# Altium integrated library FSC Logic Gate.IntLib: 323 symbols (part 6 of 8)
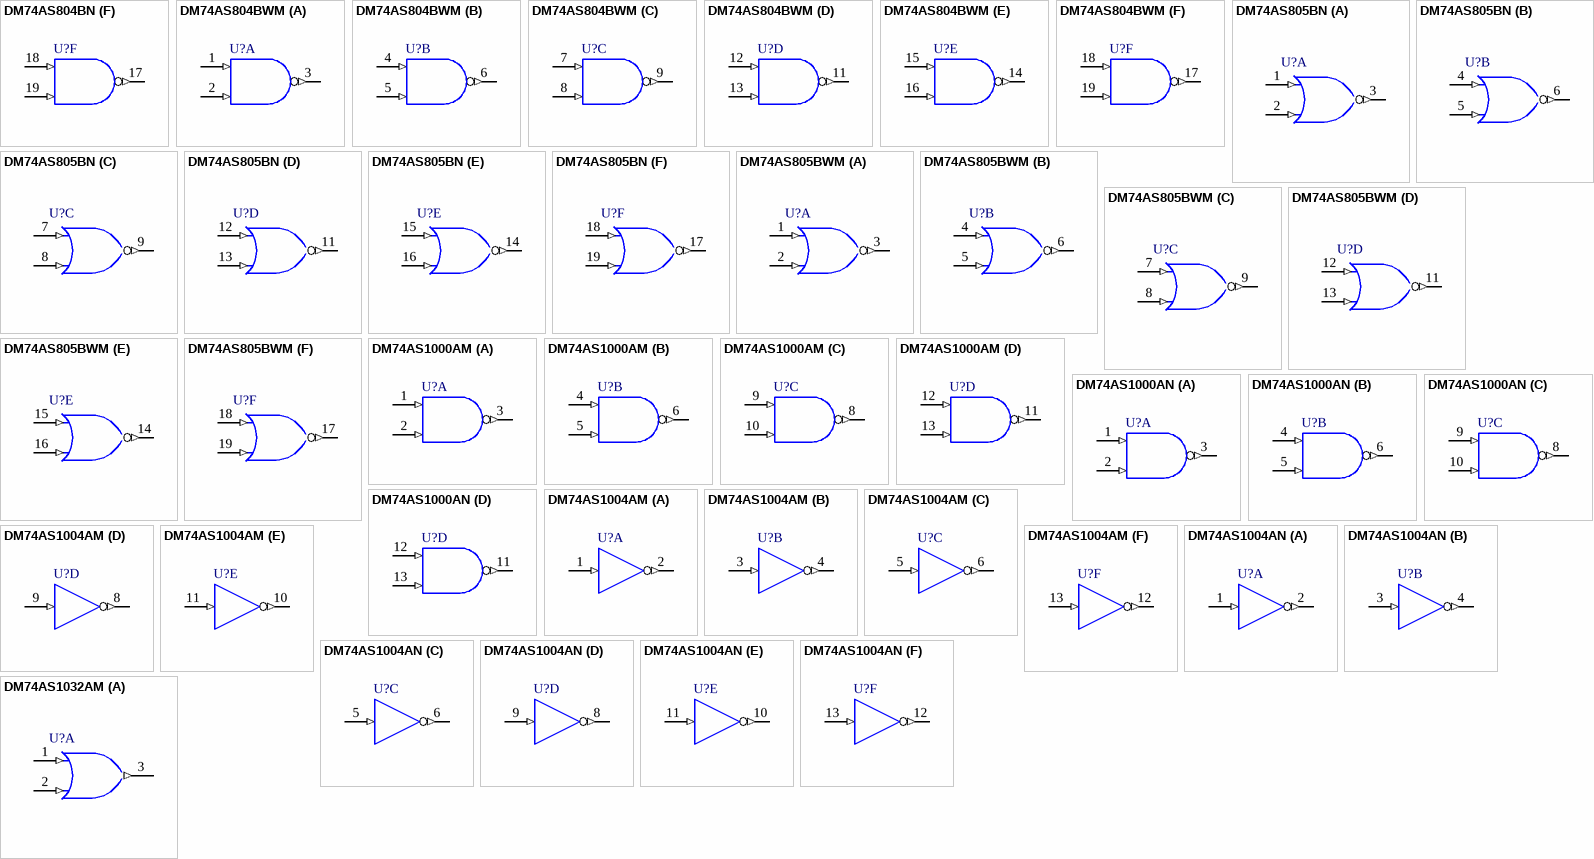
[diagram p36: symbols DM74AS804BN to DM74AS1032AM]

## DM74AS805BWM
designator U?
Hex 2-Input NOR Driver, 20-Pin SOIC; IC_Technology: AS; Published: 17-Jul-2002; LatestRevisionDate: 13-Apr-2006; LatestRevisionNote: IPC-7351 Footprint Added.; DatasheetVersion: Feb-1998; PackageVersion: 2000; PackageReference: M20B; Publisher: Altium Limited; PackageDescription: 20-Pin Small Outline Integrated Circuit 1.27 mm Pitch; Code_JEDEC: MS-013-AC; Code_IPC: SOIC127P1030-20; ComponentLink1Description: Manufacturer Link; ComponentLink1URL: http://www.fairchildsemi.com/; ComponentLink2Description: Datasheet; ComponentLink2URL: http://www.fairchildsemi.com/ds/DM%2FDM74AS805B.pdf
footprint M20B_N (SOIC, 20-Leads, Body 12.8x7.5mm, Pitch 1.27mm, IPC Medium Density)
footprint M20B_L (SOIC, 20-Leads, Body 12.8x7.5mm, Pitch 1.27mm, IPC High Density)
footprint M20B_M (SOIC, 20-Leads, Body 12.8x7.5mm, Pitch 1.27mm, IPC Low Density)
3D model M20B (20-Pin Small Outline Integrated Circuit 1.27 mm Pitch)
signal-integrity model DM74AS805BWM
pins on every part: 10 GND (power) hidden to GND, 20 VCC (power) hidden to VCC
part A pins: 1 A (in), 2 B (in), 3 Y (out)
part B pins: 4 A (in), 5 B (in), 6 Y (out)
part C pins: 7 A (in), 8 B (in), 9 Y (out)
part D pins: 11 Y (out), 12 A (in), 13 B (in)
part E pins: 14 Y (out), 15 A (in), 16 B (in)
part F pins: 17 Y (out), 18 A (in), 19 B (in)

## DM74AS1000AM
designator U?
Quad 2-Input NAND Driver, 14-Pin SOIC; IC_Technology: AS; Published: 17-Jul-2002; LatestRevisionDate: 13-Apr-2006; LatestRevisionNote: IPC-7351 Footprint Added.; DatasheetVersion: Feb-1998; PackageVersion: 2000; PackageReference: M14A; Publisher: Altium Limited; PackageDescription: 14-Pin Small Outline Integrated Circuit 1.27 mm Pitch; Code_IPC: SOIC127P600-14; ComponentLink1Description: Manufacturer Link; ComponentLink1URL: http://www.fairchildsemi.com/; ComponentLink2Description: Datasheet; ComponentLink2URL: http://www.fairchildsemi.com/ds/DM%2FDM74AS1000A.pdf
footprint M14A_N (SOIC, 14-Leads, Body 8.6x3.9mm, Pitch 1.27mm, IPC Medium Density)
footprint M14A_L (SOIC, 14-Leads, Body 8.6x3.9mm, Pitch 1.27mm, IPC High Density)
footprint M14A_M (SOIC, 14-Leads, Body 8.6x3.9mm, Pitch 1.27mm, IPC Low Density)
3D model M14A (14-Pin Small Outline Integrated Circuit 1.27 mm Pitch)
simulation model FSC_74LS00 (SIMCODE)
signal-integrity model DM74AS1000AM
pins on every part: 7 GND (power) hidden to GND, 14 VCC (power) hidden to VCC
part A pins: 1 A (in), 2 B (in), 3 Y (out)
part B pins: 4 A (in), 5 B (in), 6 Y (out)
part C pins: 8 Y (out), 9 A (in), 10 B (in)
part D pins: 11 Y (out), 12 A (in), 13 B (in)

## DM74AS1000AN
designator U?
Quad 2-Input NAND Driver, 14-Pin PDIP; IC_Technology: AS; Published: 17-Jul-2002; LatestRevisionDate: 29-May-2009; LatestRevisionNote: Component Body Added.; DatasheetVersion: Feb-1998; PackageVersion: 2000; PackageReference: N14A; Publisher: Altium Limited; PackageDescription: DIP, 14-Pin, Row Spacing 7.62 mm, Pitch 2.54 mm; ComponentLink1Description: Manufacturer Link; ComponentLink1URL: http://www.fairchildsemi.com/; ComponentLink2Description: Datasheet; ComponentLink2URL: http://www.fairchildsemi.com/ds/DM%2FDM74AS1000A.pdf
footprint N14A (DIP, 14-Leads, Row Spacing 7.62mm, Pitch 2.54mm, Body 19.18x6.35mm)
3D model N14A (DIP, 14-Pin, Row Spacing 7.62 mm, Pitch 2.54 mm)
simulation model FSC_74LS00 (SIMCODE)
signal-integrity model DM74AS1000AN
pins on every part: 7 GND (power) hidden to GND, 14 VCC (power) hidden to VCC
part A pins: 1 A (in), 2 B (in), 3 Y (out)
part B pins: 4 A (in), 5 B (in), 6 Y (out)
part C pins: 8 Y (out), 9 A (in), 10 B (in)
part D pins: 11 Y (out), 12 A (in), 13 B (in)

## DM74AS1004AM
designator U?
Hex Inverter, 14-Pin SOIC; IC_Technology: AS; Published: 17-Jul-2002; LatestRevisionDate: 13-Apr-2006; LatestRevisionNote: IPC-7351 Footprint Added.; DatasheetVersion: Feb-1998; PackageVersion: 2000; PackageReference: M14A; Publisher: Altium Limited; PackageDescription: 14-Pin Small Outline Integrated Circuit 1.27 mm Pitch; Code_IPC: SOIC127P600-14; ComponentLink1Description: Manufacturer Link; ComponentLink1URL: http://www.fairchildsemi.com/; ComponentLink2Description: Datasheet; ComponentLink2URL: http://www.fairchildsemi.com/ds/DM%2FDM74AS1004A.pdf
footprint M14A_N (SOIC, 14-Leads, Body 8.6x3.9mm, Pitch 1.27mm, IPC Medium Density)
footprint M14A_L (SOIC, 14-Leads, Body 8.6x3.9mm, Pitch 1.27mm, IPC High Density)
footprint M14A_M (SOIC, 14-Leads, Body 8.6x3.9mm, Pitch 1.27mm, IPC Low Density)
3D model M14A (14-Pin Small Outline Integrated Circuit 1.27 mm Pitch)
signal-integrity model DM74AS1004AM
pins on every part: 7 GND (power) hidden to GND, 14 VCC (power) hidden to VCC
part A pins: 1 A (in), 2 Y (out)
part B pins: 3 A (in), 4 Y (out)
part C pins: 5 A (in), 6 Y (out)
part D pins: 8 Y (out), 9 A (in)
part E pins: 10 Y (out), 11 A (in)
part F pins: 12 Y (out), 13 A (in)

## DM74AS1004AN
designator U?
Hex Inverter, 14-Pin PDIP; IC_Technology: AS; Published: 17-Jul-2002; LatestRevisionDate: 29-May-2009; LatestRevisionNote: Component Body Added.; DatasheetVersion: Feb-1998; PackageVersion: 2000; PackageReference: N14A; Publisher: Altium Limited; PackageDescription: DIP, 14-Pin, Row Spacing 7.62 mm, Pitch 2.54 mm; ComponentLink1Description: Manufacturer Link; ComponentLink1URL: http://www.fairchildsemi.com/; ComponentLink2Description: Datasheet; ComponentLink2URL: http://www.fairchildsemi.com/ds/DM%2FDM74AS1004A.pdf
footprint N14A (DIP, 14-Leads, Row Spacing 7.62mm, Pitch 2.54mm, Body 19.18x6.35mm)
3D model N14A (DIP, 14-Pin, Row Spacing 7.62 mm, Pitch 2.54 mm)
signal-integrity model DM74AS1004AN
pins on every part: 7 GND (power) hidden to GND, 14 VCC (power) hidden to VCC
part A pins: 1 A (in), 2 Y (out)
part B pins: 3 A (in), 4 Y (out)
part C pins: 5 A (in), 6 Y (out)
part D pins: 8 Y (out), 9 A (in)
part E pins: 10 Y (out), 11 A (in)
part F pins: 12 Y (out), 13 A (in)

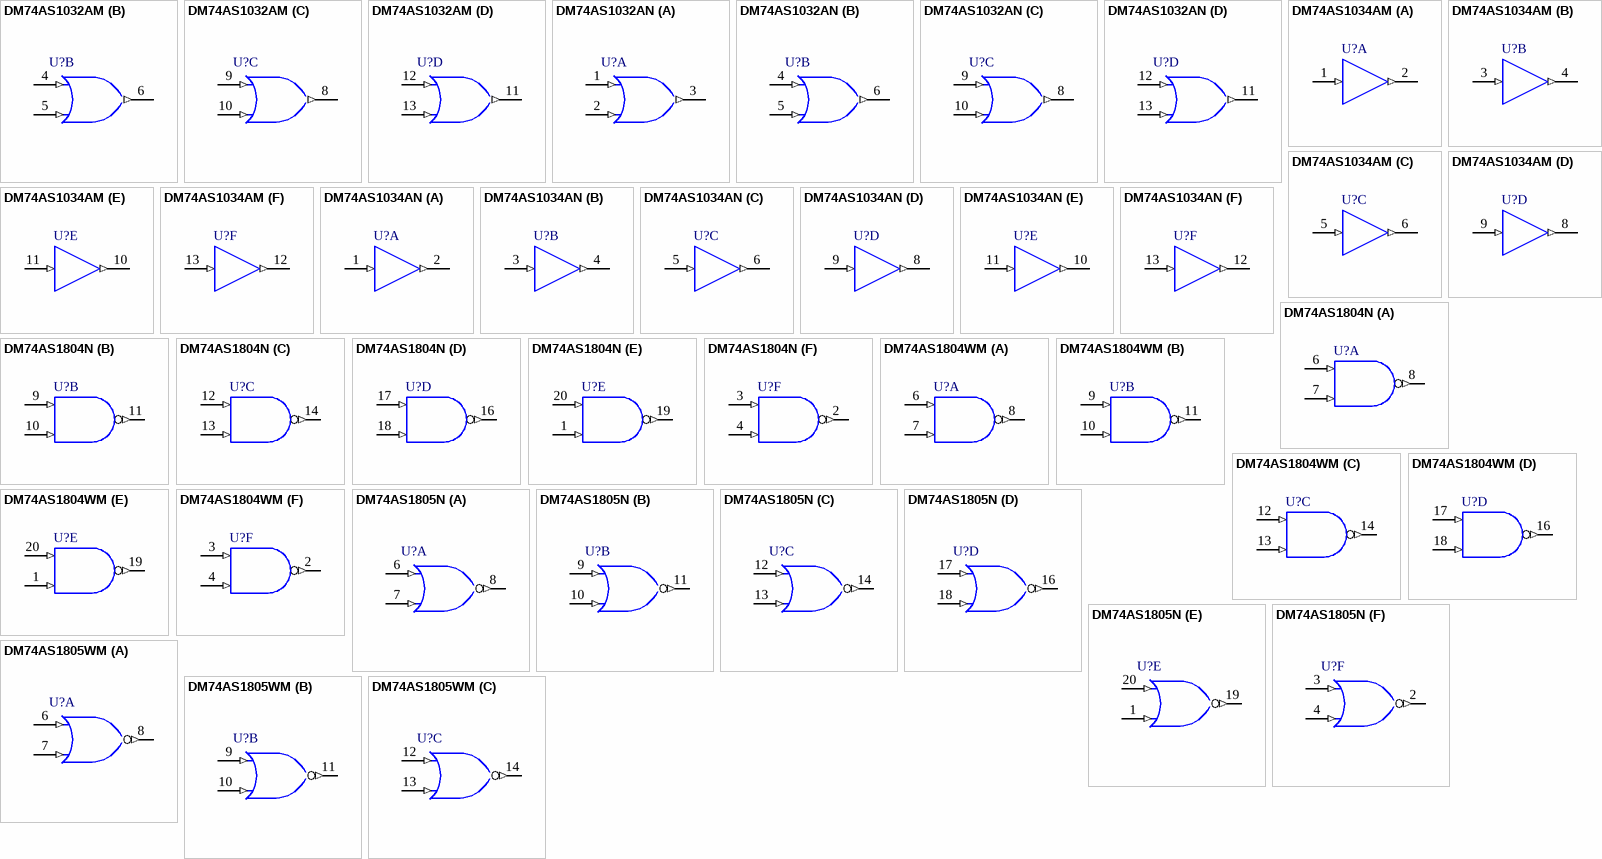
[diagram p23: symbols DM74AS1032AM to DM74AS1805WM]

## DM74AS1032AM
designator U?
Quad 2-Input OR Driver, 14-Pin SOIC; IC_Technology: AS; Published: 17-Jul-2002; LatestRevisionDate: 13-Apr-2006; LatestRevisionNote: IPC-7351 Footprint Added.; DatasheetVersion: Mar-1998; PackageVersion: 2000; PackageReference: M14A; Publisher: Altium Limited; PackageDescription: 14-Pin Small Outline Integrated Circuit 1.27 mm Pitch; Code_IPC: SOIC127P600-14; ComponentLink1Description: Manufacturer Link; ComponentLink1URL: http://www.fairchildsemi.com/; ComponentLink2Description: Datasheet; ComponentLink2URL: http://www.fairchildsemi.com/ds/DM%2FDM74AS1032A.pdf
footprint M14A_N (SOIC, 14-Leads, Body 8.6x3.9mm, Pitch 1.27mm, IPC Medium Density)
footprint M14A_L (SOIC, 14-Leads, Body 8.6x3.9mm, Pitch 1.27mm, IPC High Density)
footprint M14A_M (SOIC, 14-Leads, Body 8.6x3.9mm, Pitch 1.27mm, IPC Low Density)
3D model M14A (14-Pin Small Outline Integrated Circuit 1.27 mm Pitch)
signal-integrity model DM74AS1032AM
pins on every part: 7 GND (power) hidden to GND, 14 VCC (power) hidden to VCC
part A pins: 1 A (in), 2 B (in), 3 Y (out)
part B pins: 4 A (in), 5 B (in), 6 Y (out)
part C pins: 8 Y (out), 9 A (in), 10 B (in)
part D pins: 11 Y (out), 12 A (in), 13 B (in)

## DM74AS1032AN
designator U?
Quad 2-Input OR Driver, 14-Pin PDIP; IC_Technology: AS; Published: 17-Jul-2002; LatestRevisionDate: 29-May-2009; LatestRevisionNote: Component Body Added.; DatasheetVersion: Mar-1998; PackageVersion: 2000; PackageReference: N14A; Publisher: Altium Limited; PackageDescription: DIP, 14-Pin, Row Spacing 7.62 mm, Pitch 2.54 mm; ComponentLink1Description: Manufacturer Link; ComponentLink1URL: http://www.fairchildsemi.com/; ComponentLink2Description: Datasheet; ComponentLink2URL: http://www.fairchildsemi.com/ds/DM%2FDM74AS1032A.pdf
footprint N14A (DIP, 14-Leads, Row Spacing 7.62mm, Pitch 2.54mm, Body 19.18x6.35mm)
3D model N14A (DIP, 14-Pin, Row Spacing 7.62 mm, Pitch 2.54 mm)
signal-integrity model DM74AS1032AN
pins on every part: 7 GND (power) hidden to GND, 14 VCC (power) hidden to VCC
part A pins: 1 A (in), 2 B (in), 3 Y (out)
part B pins: 4 A (in), 5 B (in), 6 Y (out)
part C pins: 8 Y (out), 9 A (in), 10 B (in)
part D pins: 11 Y (out), 12 A (in), 13 B (in)

## DM74AS1034AM
designator U?
Hex Non-Inverting Driver, 14-Pin SOIC; IC_Technology: AS; Published: 17-Jul-2002; LatestRevisionDate: 13-Apr-2006; LatestRevisionNote: IPC-7351 Footprint Added.; DatasheetVersion: Feb-1998; PackageVersion: 2000; PackageReference: M14A; Publisher: Altium Limited; PackageDescription: 14-Pin Small Outline Integrated Circuit 1.27 mm Pitch; Code_IPC: SOIC127P600-14; ComponentLink1Description: Manufacturer Link; ComponentLink1URL: http://www.fairchildsemi.com/; ComponentLink2Description: Datasheet; ComponentLink2URL: http://www.fairchildsemi.com/ds/DM%2FDM74AS1034A.pdf
footprint M14A_N (SOIC, 14-Leads, Body 8.6x3.9mm, Pitch 1.27mm, IPC Medium Density)
footprint M14A_L (SOIC, 14-Leads, Body 8.6x3.9mm, Pitch 1.27mm, IPC High Density)
footprint M14A_M (SOIC, 14-Leads, Body 8.6x3.9mm, Pitch 1.27mm, IPC Low Density)
3D model M14A (14-Pin Small Outline Integrated Circuit 1.27 mm Pitch)
signal-integrity model DM74AS1034AM
pins on every part: 7 GND (power) hidden to GND, 14 VCC (power) hidden to VCC
part A pins: 1 A (in), 2 Y (out)
part B pins: 3 A (in), 4 Y (out)
part C pins: 5 A (in), 6 Y (out)
part D pins: 8 Y (out), 9 A (in)
part E pins: 10 Y (out), 11 A (in)
part F pins: 12 Y (out), 13 A (in)

## DM74AS1034AN
designator U?
Hex Non-Inverting Driver, 14-Pin PDIP; IC_Technology: AS; Published: 17-Jul-2002; LatestRevisionDate: 29-May-2009; LatestRevisionNote: Component Body Added.; DatasheetVersion: Feb-1998; PackageVersion: 2000; PackageReference: N14A; Publisher: Altium Limited; PackageDescription: DIP, 14-Pin, Row Spacing 7.62 mm, Pitch 2.54 mm; ComponentLink1Description: Manufacturer Link; ComponentLink1URL: http://www.fairchildsemi.com/; ComponentLink2Description: Datasheet; ComponentLink2URL: http://www.fairchildsemi.com/ds/DM%2FDM74AS1034A.pdf
footprint N14A (DIP, 14-Leads, Row Spacing 7.62mm, Pitch 2.54mm, Body 19.18x6.35mm)
3D model N14A (DIP, 14-Pin, Row Spacing 7.62 mm, Pitch 2.54 mm)
signal-integrity model DM74AS1034AN
pins on every part: 7 GND (power) hidden to GND, 14 VCC (power) hidden to VCC
part A pins: 1 A (in), 2 Y (out)
part B pins: 3 A (in), 4 Y (out)
part C pins: 5 A (in), 6 Y (out)
part D pins: 8 Y (out), 9 A (in)
part E pins: 10 Y (out), 11 A (in)
part F pins: 12 Y (out), 13 A (in)

## DM74AS1804N
designator U?
Hex 2-Input NAND Driver, 20-Pin PDIP; IC_Technology: AS; Published: 17-Jul-2002; LatestRevisionDate: 29-May-2009; LatestRevisionNote: Component Body Added.; DatasheetVersion: Feb-1998; PackageVersion: 2000; PackageReference: N20A; Publisher: Altium Limited; PackageDescription: DIP, 20-Pin, Row Spacing 7.62 mm, Pitch 2.54 mm; Code_JEDEC: MS-001-AD; ComponentLink1Description: Manufacturer Link; ComponentLink1URL: http://www.fairchildsemi.com/; ComponentLink2Description: Datasheet; ComponentLink2URL: http://www.fairchildsemi.com/ds/DM%2FDM74AS1804.pdf
footprint N20A (DIP, 20-Leads, Row Spacing 7.62mm, Pitch 2.54mm, Body 26.07x6.6mm)
3D model N20A (DIP, 20-Pin, Row Spacing 7.62 mm, Pitch 2.54 mm)
signal-integrity model DM74AS1804N
pins on every part: 5 VCC (power) hidden to VCC, 15 GND (power) hidden to GND
part A pins: 6 A (in), 7 B (in), 8 Y (out)
part B pins: 9 A (in), 10 B (in), 11 Y (out)
part C pins: 12 A (in), 13 B (in), 14 Y (out)
part D pins: 16 Y (out), 17 A (in), 18 B (in)
part E pins: 1 B (in), 19 Y (out), 20 A (in)
part F pins: 2 Y (out), 3 A (in), 4 B (in)

## DM74AS1804WM
designator U?
Hex 2-Input NAND Driver, 20-Pin SOIC; IC_Technology: AS; Published: 17-Jul-2002; LatestRevisionDate: 13-Apr-2006; LatestRevisionNote: IPC-7351 Footprint Added.; DatasheetVersion: Feb-1998; PackageVersion: 2000; PackageReference: M20B; Publisher: Altium Limited; PackageDescription: 20-Pin Small Outline Integrated Circuit 1.27 mm Pitch; Code_JEDEC: MS-013-AC; Code_IPC: SOIC127P1030-20; ComponentLink1Description: Manufacturer Link; ComponentLink1URL: http://www.fairchildsemi.com/; ComponentLink2Description: Datasheet; ComponentLink2URL: http://www.fairchildsemi.com/ds/DM%2FDM74AS1804.pdf
footprint M20B_N (SOIC, 20-Leads, Body 12.8x7.5mm, Pitch 1.27mm, IPC Medium Density)
footprint M20B_L (SOIC, 20-Leads, Body 12.8x7.5mm, Pitch 1.27mm, IPC High Density)
footprint M20B_M (SOIC, 20-Leads, Body 12.8x7.5mm, Pitch 1.27mm, IPC Low Density)
3D model M20B (20-Pin Small Outline Integrated Circuit 1.27 mm Pitch)
signal-integrity model DM74AS1804WM
pins on every part: 5 VCC (power) hidden to VCC, 15 GND (power) hidden to GND
part A pins: 6 A (in), 7 B (in), 8 Y (out)
part B pins: 9 A (in), 10 B (in), 11 Y (out)
part C pins: 12 A (in), 13 B (in), 14 Y (out)
part D pins: 16 Y (out), 17 A (in), 18 B (in)
part E pins: 1 B (in), 19 Y (out), 20 A (in)
part F pins: 2 Y (out), 3 A (in), 4 B (in)

## DM74AS1805N
designator U?
Hex 2-Input NOR Driver, 20-Pin PDIP; IC_Technology: AS; Published: 17-Jul-2002; LatestRevisionDate: 29-May-2009; LatestRevisionNote: Component Body Added.; DatasheetVersion: Feb-1998; PackageVersion: 2000; PackageReference: N20A; Publisher: Altium Limited; PackageDescription: DIP, 20-Pin, Row Spacing 7.62 mm, Pitch 2.54 mm; Code_JEDEC: MS-001-AD; ComponentLink1Description: Manufacturer Link; ComponentLink1URL: http://www.fairchildsemi.com/; ComponentLink2Description: Datasheet; ComponentLink2URL: http://www.fairchildsemi.com/ds/DM%2FDM74AS1805.pdf
footprint N20A (DIP, 20-Leads, Row Spacing 7.62mm, Pitch 2.54mm, Body 26.07x6.6mm)
3D model N20A (DIP, 20-Pin, Row Spacing 7.62 mm, Pitch 2.54 mm)
signal-integrity model DM74AS1805N
pins on every part: 5 VCC (power) hidden to VCC, 15 GND (power) hidden to GND
part A pins: 6 A (in), 7 B (in), 8 Y (out)
part B pins: 9 A (in), 10 B (in), 11 Y (out)
part C pins: 12 A (in), 13 B (in), 14 Y (out)
part D pins: 16 Y (out), 17 A (in), 18 B (in)
part E pins: 1 B (in), 19 Y (out), 20 A (in)
part F pins: 2 Y (out), 3 A (in), 4 B (in)

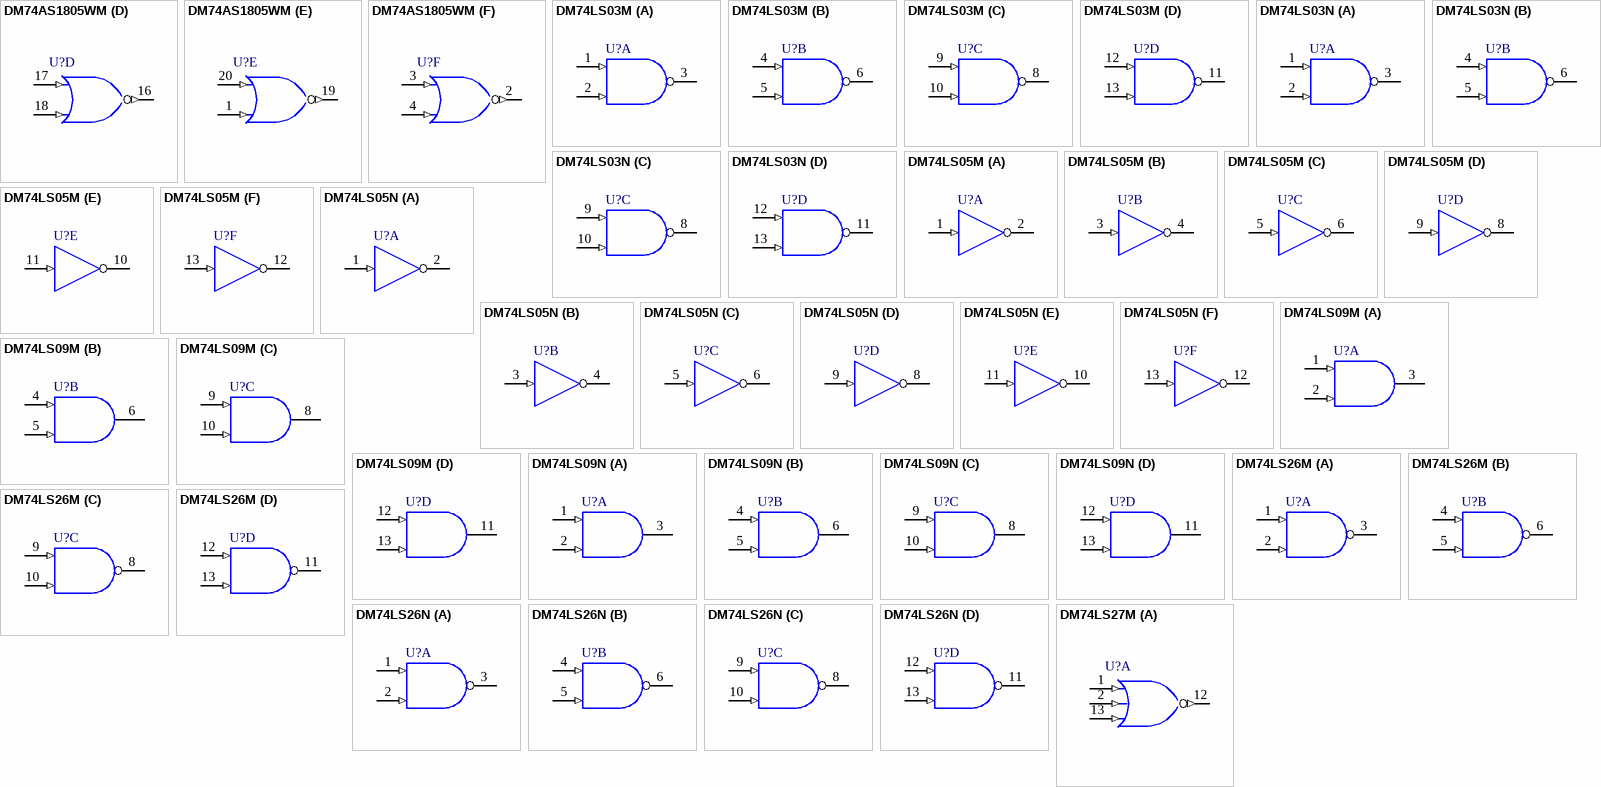
[diagram p24: symbols DM74AS1805WM to DM74LS27M]

## DM74AS1805WM
designator U?
Hex 2-Input NOR Driver, 20-Pin SOIC; IC_Technology: AS; Published: 17-Jul-2002; LatestRevisionDate: 13-Apr-2006; LatestRevisionNote: IPC-7351 Footprint Added.; DatasheetVersion: Feb-1998; PackageVersion: 2000; PackageReference: M20B; Publisher: Altium Limited; PackageDescription: 20-Pin Small Outline Integrated Circuit 1.27 mm Pitch; Code_JEDEC: MS-013-AC; Code_IPC: SOIC127P1030-20; ComponentLink1Description: Manufacturer Link; ComponentLink1URL: http://www.fairchildsemi.com/; ComponentLink2Description: Datasheet; ComponentLink2URL: http://www.fairchildsemi.com/ds/DM%2FDM74AS1805.pdf
footprint M20B_N (SOIC, 20-Leads, Body 12.8x7.5mm, Pitch 1.27mm, IPC Medium Density)
footprint M20B_L (SOIC, 20-Leads, Body 12.8x7.5mm, Pitch 1.27mm, IPC High Density)
footprint M20B_M (SOIC, 20-Leads, Body 12.8x7.5mm, Pitch 1.27mm, IPC Low Density)
3D model M20B (20-Pin Small Outline Integrated Circuit 1.27 mm Pitch)
signal-integrity model DM74AS1805WM
pins on every part: 5 VCC (power) hidden to VCC, 15 GND (power) hidden to GND
part A pins: 6 A (in), 7 B (in), 8 Y (out)
part B pins: 9 A (in), 10 B (in), 11 Y (out)
part C pins: 12 A (in), 13 B (in), 14 Y (out)
part D pins: 16 Y (out), 17 A (in), 18 B (in)
part E pins: 1 B (in), 19 Y (out), 20 A (in)
part F pins: 2 Y (out), 3 A (in), 4 B (in)

## DM74LS03M
designator U?
Quad 2-Input NAND Gate with Open-Collector Output, 14-Pin SOIC; IC_Technology: LS; Published: 17-Jul-2002; LatestRevisionDate: 13-Apr-2006; LatestRevisionNote: IPC-7351 Footprint Added.; DatasheetVersion: Mar-1998; PackageVersion: 2000; PackageReference: M14A; Publisher: Altium Limited; PackageDescription: 14-Pin Small Outline Integrated Circuit 1.27 mm Pitch; Code_IPC: SOIC127P600-14; ComponentLink1Description: Manufacturer Link; ComponentLink1URL: http://www.fairchildsemi.com/
footprint M14A_N (SOIC, 14-Leads, Body 8.6x3.9mm, Pitch 1.27mm, IPC Medium Density)
footprint M14A_L (SOIC, 14-Leads, Body 8.6x3.9mm, Pitch 1.27mm, IPC High Density)
footprint M14A_M (SOIC, 14-Leads, Body 8.6x3.9mm, Pitch 1.27mm, IPC Low Density)
3D model M14A (14-Pin Small Outline Integrated Circuit 1.27 mm Pitch)
simulation model FSC_74LS03 (SIMCODE)
signal-integrity model DM74LS03M
pins on every part: 7 GND (power) hidden to GND, 14 VCC (power) hidden to VCC
part A pins: 1 A (in), 2 B (in), 3 Y (oc)
part B pins: 4 A (in), 5 B (in), 6 Y (oc)
part C pins: 8 Y (oc), 9 A (in), 10 B (in)
part D pins: 11 Y (oc), 12 A (in), 13 B (in)

## DM74LS03N
designator U?
Quad 2-Input NAND Gate with Open-Collector Output, 14-Pin PDIP; IC_Technology: LS; Published: 17-Jul-2002; LatestRevisionDate: 29-May-2009; LatestRevisionNote: Component Body Added.; DatasheetVersion: Mar-1998; PackageVersion: 2000; PackageReference: N14A; Publisher: Altium Limited; PackageDescription: DIP, 14-Pin, Row Spacing 7.62 mm, Pitch 2.54 mm; ComponentLink1Description: Manufacturer Link; ComponentLink1URL: http://www.fairchildsemi.com/
footprint N14A (DIP, 14-Leads, Row Spacing 7.62mm, Pitch 2.54mm, Body 19.18x6.35mm)
3D model N14A (DIP, 14-Pin, Row Spacing 7.62 mm, Pitch 2.54 mm)
simulation model FSC_74LS03 (SIMCODE)
signal-integrity model DM74LS03N
pins on every part: 7 GND (power) hidden to GND, 14 VCC (power) hidden to VCC
part A pins: 1 A (in), 2 B (in), 3 Y (oc)
part B pins: 4 A (in), 5 B (in), 6 Y (oc)
part C pins: 8 Y (oc), 9 A (in), 10 B (in)
part D pins: 11 Y (oc), 12 A (in), 13 B (in)

## DM74LS05M
designator U?
Hex Inverter with Open-Collector Output, 14-Pin SOIC; IC_Technology: LS; Published: 17-Jul-2002; LatestRevisionDate: 13-Apr-2006; LatestRevisionNote: IPC-7351 Footprint Added.; DatasheetVersion: Mar-1998; PackageVersion: 2000; PackageReference: M14A; Publisher: Altium Limited; PackageDescription: 14-Pin Small Outline Integrated Circuit 1.27 mm Pitch; Code_IPC: SOIC127P600-14; ComponentLink1Description: Manufacturer Link; ComponentLink1URL: http://www.fairchildsemi.com/
footprint M14A_N (SOIC, 14-Leads, Body 8.6x3.9mm, Pitch 1.27mm, IPC Medium Density)
footprint M14A_L (SOIC, 14-Leads, Body 8.6x3.9mm, Pitch 1.27mm, IPC High Density)
footprint M14A_M (SOIC, 14-Leads, Body 8.6x3.9mm, Pitch 1.27mm, IPC Low Density)
3D model M14A (14-Pin Small Outline Integrated Circuit 1.27 mm Pitch)
simulation model FSC_74LS05 (SIMCODE)
signal-integrity model DM74LS05M
pins on every part: 7 GND (power) hidden to GND, 14 VCC (power) hidden to VCC
part A pins: 1 A (in), 2 Y (oc)
part B pins: 3 A (in), 4 Y (oc)
part C pins: 5 A (in), 6 Y (oc)
part D pins: 8 Y (oc), 9 A (in)
part E pins: 10 Y (oc), 11 A (in)
part F pins: 12 Y (oc), 13 A (in)

## DM74LS05N
designator U?
Hex Inverter with Open-Collector Output, 14-Pin PDIP; IC_Technology: LS; Published: 17-Jul-2002; LatestRevisionDate: 29-May-2009; LatestRevisionNote: Component Body Added.; DatasheetVersion: Mar-1998; PackageVersion: 2000; PackageReference: N14A; Publisher: Altium Limited; PackageDescription: DIP, 14-Pin, Row Spacing 7.62 mm, Pitch 2.54 mm; ComponentLink1Description: Manufacturer Link; ComponentLink1URL: http://www.fairchildsemi.com/
footprint N14A (DIP, 14-Leads, Row Spacing 7.62mm, Pitch 2.54mm, Body 19.18x6.35mm)
3D model N14A (DIP, 14-Pin, Row Spacing 7.62 mm, Pitch 2.54 mm)
simulation model FSC_74LS05 (SIMCODE)
signal-integrity model DM74LS05N
pins on every part: 7 GND (power) hidden to GND, 14 VCC (power) hidden to VCC
part A pins: 1 A (in), 2 Y (oc)
part B pins: 3 A (in), 4 Y (oc)
part C pins: 5 A (in), 6 Y (oc)
part D pins: 8 Y (oc), 9 A (in)
part E pins: 10 Y (oc), 11 A (in)
part F pins: 12 Y (oc), 13 A (in)

## DM74LS09M
designator U?
Quad 2-Input AND Gate with Open-Collector Output, 14-Pin SOIC; IC_Technology: LS; Published: 17-Jul-2002; LatestRevisionDate: 13-Apr-2006; LatestRevisionNote: IPC-7351 Footprint Added.; DatasheetVersion: Mar-1998; PackageVersion: 2000; PackageReference: M14A; Publisher: Altium Limited; PackageDescription: 14-Pin Small Outline Integrated Circuit 1.27 mm Pitch; Code_IPC: SOIC127P600-14; ComponentLink1Description: Manufacturer Link; ComponentLink1URL: http://www.fairchildsemi.com/
footprint M14A_N (SOIC, 14-Leads, Body 8.6x3.9mm, Pitch 1.27mm, IPC Medium Density)
footprint M14A_L (SOIC, 14-Leads, Body 8.6x3.9mm, Pitch 1.27mm, IPC High Density)
footprint M14A_M (SOIC, 14-Leads, Body 8.6x3.9mm, Pitch 1.27mm, IPC Low Density)
3D model M14A (14-Pin Small Outline Integrated Circuit 1.27 mm Pitch)
simulation model FSC_74LS09 (SIMCODE)
signal-integrity model DM74LS09M
pins on every part: 7 GND (power) hidden to GND, 14 VCC (power) hidden to VCC
part A pins: 1 A (in), 2 B (in), 3 Y (oc)
part B pins: 4 A (in), 5 B (in), 6 Y (oc)
part C pins: 8 Y (oc), 9 A (in), 10 B (in)
part D pins: 11 Y (oc), 12 A (in), 13 B (in)

## DM74LS09N
designator U?
Quad 2-Input AND Gate with Open-Collector Output, 14-Pin PDIP; IC_Technology: LS; Published: 17-Jul-2002; LatestRevisionDate: 29-May-2009; LatestRevisionNote: Component Body Added.; DatasheetVersion: Mar-1998; PackageVersion: 2000; PackageReference: N14A; Publisher: Altium Limited; PackageDescription: DIP, 14-Pin, Row Spacing 7.62 mm, Pitch 2.54 mm; ComponentLink1Description: Manufacturer Link; ComponentLink1URL: http://www.fairchildsemi.com/
footprint N14A (DIP, 14-Leads, Row Spacing 7.62mm, Pitch 2.54mm, Body 19.18x6.35mm)
3D model N14A (DIP, 14-Pin, Row Spacing 7.62 mm, Pitch 2.54 mm)
simulation model FSC_74LS09 (SIMCODE)
signal-integrity model DM74LS09N
pins on every part: 7 GND (power) hidden to GND, 14 VCC (power) hidden to VCC
part A pins: 1 A (in), 2 B (in), 3 Y (oc)
part B pins: 4 A (in), 5 B (in), 6 Y (oc)
part C pins: 8 Y (oc), 9 A (in), 10 B (in)
part D pins: 11 Y (oc), 12 A (in), 13 B (in)

## DM74LS26M
designator U?
Quad 2-Input NAND Gate with High-Voltage Open-Collector Output, 14-Pin SOIC; IC_Technology: LS; Published: 17-Jul-2002; LatestRevisionDate: 13-Apr-2006; LatestRevisionNote: IPC-7351 Footprint Added.; DatasheetVersion: Mar-1998; PackageVersion: 2000; PackageReference: M14A; Publisher: Altium Limited; PackageDescription: 14-Pin Small Outline Integrated Circuit 1.27 mm Pitch; Code_IPC: SOIC127P600-14; ComponentLink1Description: Manufacturer Link; ComponentLink1URL: http://www.fairchildsemi.com/
footprint M14A_N (SOIC, 14-Leads, Body 8.6x3.9mm, Pitch 1.27mm, IPC Medium Density)
footprint M14A_L (SOIC, 14-Leads, Body 8.6x3.9mm, Pitch 1.27mm, IPC High Density)
footprint M14A_M (SOIC, 14-Leads, Body 8.6x3.9mm, Pitch 1.27mm, IPC Low Density)
3D model M14A (14-Pin Small Outline Integrated Circuit 1.27 mm Pitch)
simulation model FSC_74LS26 (SIMCODE)
signal-integrity model DM74LS26M
pins on every part: 7 GND (power) hidden to GND, 14 VCC (power) hidden to VCC
part A pins: 1 A (in), 2 B (in), 3 Y (oc)
part B pins: 4 A (in), 5 B (in), 6 Y (oc)
part C pins: 8 Y (oc), 9 A (in), 10 B (in)
part D pins: 11 Y (oc), 12 A (in), 13 B (in)

## DM74LS26N
designator U?
Quad 2-Input NAND Gate with High-Voltage Open-Collector Output, 14-Pin PDIP; IC_Technology: LS; Published: 17-Jul-2002; LatestRevisionDate: 29-May-2009; LatestRevisionNote: Component Body Added.; DatasheetVersion: Mar-1998; PackageVersion: 2000; PackageReference: N14A; Publisher: Altium Limited; PackageDescription: DIP, 14-Pin, Row Spacing 7.62 mm, Pitch 2.54 mm; ComponentLink1Description: Manufacturer Link; ComponentLink1URL: http://www.fairchildsemi.com/
footprint N14A (DIP, 14-Leads, Row Spacing 7.62mm, Pitch 2.54mm, Body 19.18x6.35mm)
3D model N14A (DIP, 14-Pin, Row Spacing 7.62 mm, Pitch 2.54 mm)
simulation model FSC_74LS26 (SIMCODE)
signal-integrity model DM74LS26N
pins on every part: 7 GND (power) hidden to GND, 14 VCC (power) hidden to VCC
part A pins: 1 A (in), 2 B (in), 3 Y (oc)
part B pins: 4 A (in), 5 B (in), 6 Y (oc)
part C pins: 8 Y (oc), 9 A (in), 10 B (in)
part D pins: 11 Y (oc), 12 A (in), 13 B (in)

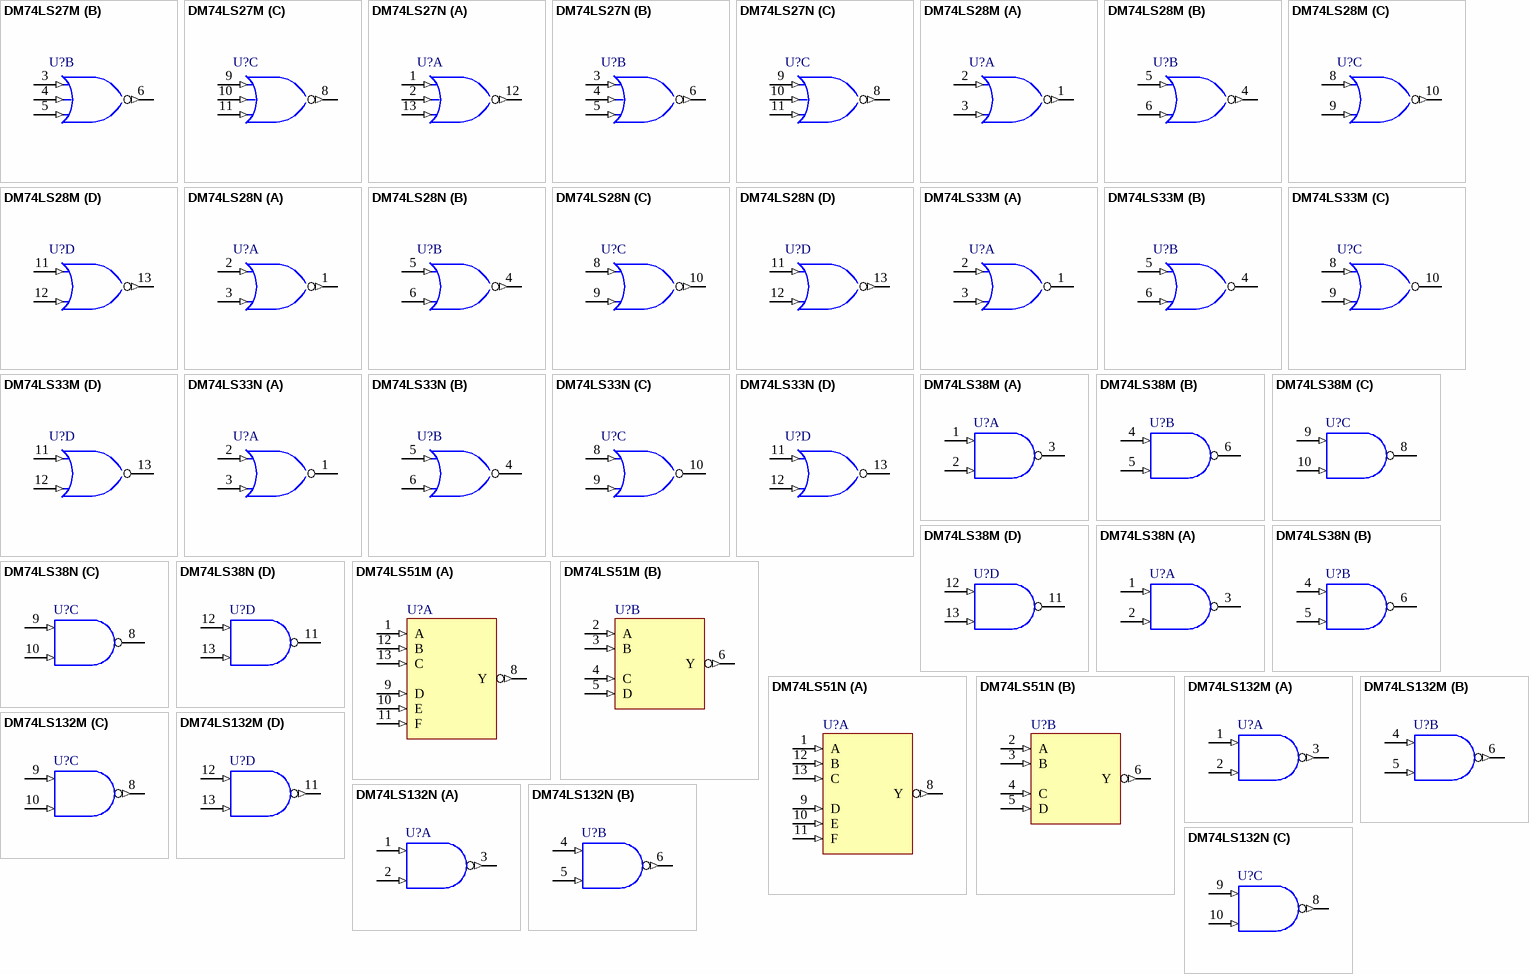
[diagram p25: symbols DM74LS27M to DM74LS132N]

## DM74LS27M
designator U?
Triple 3-Input NOR Gate, 14-Pin SOIC; IC_Technology: LS; Published: 17-Jul-2002; LatestRevisionDate: 13-Apr-2006; LatestRevisionNote: IPC-7351 Footprint Added.; DatasheetVersion: Mar-1998; PackageVersion: 2000; PackageReference: M14A; Publisher: Altium Limited; PackageDescription: 14-Pin Small Outline Integrated Circuit 1.27 mm Pitch; Code_IPC: SOIC127P600-14; ComponentLink1Description: Manufacturer Link; ComponentLink1URL: http://www.fairchildsemi.com/
footprint M14A_N (SOIC, 14-Leads, Body 8.6x3.9mm, Pitch 1.27mm, IPC Medium Density)
footprint M14A_L (SOIC, 14-Leads, Body 8.6x3.9mm, Pitch 1.27mm, IPC High Density)
footprint M14A_M (SOIC, 14-Leads, Body 8.6x3.9mm, Pitch 1.27mm, IPC Low Density)
3D model M14A (14-Pin Small Outline Integrated Circuit 1.27 mm Pitch)
simulation model FSC_74LS27 (SIMCODE)
signal-integrity model DM74LS27M
pins on every part: 7 GND (power) hidden to GND, 14 VCC (power) hidden to VCC
part A pins: 1 A (in), 2 B (in), 12 Y (out), 13 C (in)
part B pins: 3 A (in), 4 B (in), 5 C (in), 6 Y (out)
part C pins: 8 Y (out), 9 A (in), 10 B (in), 11 C (in)

## DM74LS27N
designator U?
Triple 3-Input NOR Gate, 14-Pin PDIP; IC_Technology: LS; Published: 17-Jul-2002; LatestRevisionDate: 29-May-2009; LatestRevisionNote: Component Body Added.; DatasheetVersion: Mar-1998; PackageVersion: 2000; PackageReference: N14A; Publisher: Altium Limited; PackageDescription: DIP, 14-Pin, Row Spacing 7.62 mm, Pitch 2.54 mm; ComponentLink1Description: Manufacturer Link; ComponentLink1URL: http://www.fairchildsemi.com/
footprint N14A (DIP, 14-Leads, Row Spacing 7.62mm, Pitch 2.54mm, Body 19.18x6.35mm)
3D model N14A (DIP, 14-Pin, Row Spacing 7.62 mm, Pitch 2.54 mm)
simulation model FSC_74LS27 (SIMCODE)
signal-integrity model DM74LS27N
pins on every part: 7 GND (power) hidden to GND, 14 VCC (power) hidden to VCC
part A pins: 1 A (in), 2 B (in), 12 Y (out), 13 C (in)
part B pins: 3 A (in), 4 B (in), 5 C (in), 6 Y (out)
part C pins: 8 Y (out), 9 A (in), 10 B (in), 11 C (in)

## DM74LS28M
designator U?
Quad 2-Input NOR Buffer, 14-Pin SOIC; IC_Technology: LS; Published: 17-Jul-2002; LatestRevisionDate: 13-Apr-2006; LatestRevisionNote: IPC-7351 Footprint Added.; DatasheetVersion: Apr-1998; PackageVersion: 2000; PackageReference: M14A; Publisher: Altium Limited; PackageDescription: 14-Pin Small Outline Integrated Circuit 1.27 mm Pitch; Code_IPC: SOIC127P600-14; ComponentLink1Description: Manufacturer Link; ComponentLink1URL: http://www.fairchildsemi.com/
footprint M14A_N (SOIC, 14-Leads, Body 8.6x3.9mm, Pitch 1.27mm, IPC Medium Density)
footprint M14A_L (SOIC, 14-Leads, Body 8.6x3.9mm, Pitch 1.27mm, IPC High Density)
footprint M14A_M (SOIC, 14-Leads, Body 8.6x3.9mm, Pitch 1.27mm, IPC Low Density)
3D model M14A (14-Pin Small Outline Integrated Circuit 1.27 mm Pitch)
signal-integrity model DM74LS28M
pins on every part: 7 GND (power) hidden to GND, 14 VCC (power) hidden to VCC
part A pins: 1 Y (out), 2 A (in), 3 B (in)
part B pins: 4 Y (out), 5 A (in), 6 B (in)
part C pins: 8 A (in), 9 B (in), 10 Y (out)
part D pins: 11 A (in), 12 B (in), 13 Y (out)

## DM74LS28N
designator U?
Quad 2-Input NOR Buffer, 14-Pin PDIP; IC_Technology: LS; Published: 17-Jul-2002; LatestRevisionDate: 29-May-2009; LatestRevisionNote: Component Body Added.; DatasheetVersion: Apr-1998; PackageVersion: 2000; PackageReference: N14A; Publisher: Altium Limited; PackageDescription: DIP, 14-Pin, Row Spacing 7.62 mm, Pitch 2.54 mm; ComponentLink1Description: Manufacturer Link; ComponentLink1URL: http://www.fairchildsemi.com/
footprint N14A (DIP, 14-Leads, Row Spacing 7.62mm, Pitch 2.54mm, Body 19.18x6.35mm)
3D model N14A (DIP, 14-Pin, Row Spacing 7.62 mm, Pitch 2.54 mm)
signal-integrity model DM74LS28N
pins on every part: 7 GND (power) hidden to GND, 14 VCC (power) hidden to VCC
part A pins: 1 Y (out), 2 A (in), 3 B (in)
part B pins: 4 Y (out), 5 A (in), 6 B (in)
part C pins: 8 A (in), 9 B (in), 10 Y (out)
part D pins: 11 A (in), 12 B (in), 13 Y (out)

## DM74LS33M
designator U?
Quad 2-Input NOR Buffer with Open-Collector Output, 14-Pin SOIC; IC_Technology: LS; Published: 17-Jul-2002; LatestRevisionDate: 13-Apr-2006; LatestRevisionNote: IPC-7351 Footprint Added.; DatasheetVersion: Apr-1998; PackageVersion: 2000; PackageReference: M14A; Publisher: Altium Limited; PackageDescription: 14-Pin Small Outline Integrated Circuit 1.27 mm Pitch; Code_IPC: SOIC127P600-14; ComponentLink1Description: Manufacturer Link; ComponentLink1URL: http://www.fairchildsemi.com/
footprint M14A_N (SOIC, 14-Leads, Body 8.6x3.9mm, Pitch 1.27mm, IPC Medium Density)
footprint M14A_L (SOIC, 14-Leads, Body 8.6x3.9mm, Pitch 1.27mm, IPC High Density)
footprint M14A_M (SOIC, 14-Leads, Body 8.6x3.9mm, Pitch 1.27mm, IPC Low Density)
3D model M14A (14-Pin Small Outline Integrated Circuit 1.27 mm Pitch)
simulation model FSC_74LS33 (SIMCODE)
signal-integrity model DM74LS33M
pins on every part: 7 GND (power) hidden to GND, 14 VCC (power) hidden to VCC
part A pins: 1 Y (oc), 2 A (in), 3 B (in)
part B pins: 4 Y (oc), 5 A (in), 6 B (in)
part C pins: 8 A (in), 9 B (in), 10 Y (oc)
part D pins: 11 A (in), 12 B (in), 13 Y (oc)

## DM74LS33N
designator U?
Quad 2-Input NOR Buffer with Open-Collector Output, 14-Pin PDIP; IC_Technology: LS; Published: 17-Jul-2002; LatestRevisionDate: 29-May-2009; LatestRevisionNote: Component Body Added.; DatasheetVersion: Apr-1998; PackageVersion: 2000; PackageReference: N14A; Publisher: Altium Limited; PackageDescription: DIP, 14-Pin, Row Spacing 7.62 mm, Pitch 2.54 mm; ComponentLink1Description: Manufacturer Link; ComponentLink1URL: http://www.fairchildsemi.com/
footprint N14A (DIP, 14-Leads, Row Spacing 7.62mm, Pitch 2.54mm, Body 19.18x6.35mm)
3D model N14A (DIP, 14-Pin, Row Spacing 7.62 mm, Pitch 2.54 mm)
simulation model FSC_74LS33 (SIMCODE)
signal-integrity model DM74LS33N
pins on every part: 7 GND (power) hidden to GND, 14 VCC (power) hidden to VCC
part A pins: 1 Y (oc), 2 A (in), 3 B (in)
part B pins: 4 Y (oc), 5 A (in), 6 B (in)
part C pins: 8 A (in), 9 B (in), 10 Y (oc)
part D pins: 11 A (in), 12 B (in), 13 Y (oc)

## DM74LS38M
designator U?
Quad 2-Input NAND Buffer with Open-Collector Output, 14-Pin SOIC; IC_Technology: LS; Published: 17-Jul-2002; LatestRevisionDate: 13-Apr-2006; LatestRevisionNote: IPC-7351 Footprint Added.; DatasheetVersion: Mar-1998; PackageVersion: 2000; PackageReference: M14A; Publisher: Altium Limited; PackageDescription: 14-Pin Small Outline Integrated Circuit 1.27 mm Pitch; Code_IPC: SOIC127P600-14; ComponentLink1Description: Manufacturer Link; ComponentLink1URL: http://www.fairchildsemi.com/
footprint M14A_N (SOIC, 14-Leads, Body 8.6x3.9mm, Pitch 1.27mm, IPC Medium Density)
footprint M14A_L (SOIC, 14-Leads, Body 8.6x3.9mm, Pitch 1.27mm, IPC High Density)
footprint M14A_M (SOIC, 14-Leads, Body 8.6x3.9mm, Pitch 1.27mm, IPC Low Density)
3D model M14A (14-Pin Small Outline Integrated Circuit 1.27 mm Pitch)
simulation model FSC_74LS38 (SIMCODE)
signal-integrity model DM74LS38M
pins on every part: 7 GND (power) hidden to GND, 14 VCC (power) hidden to VCC
part A pins: 1 A (in), 2 B (in), 3 Y (oc)
part B pins: 4 A (in), 5 B (in), 6 Y (oc)
part C pins: 8 Y (oc), 9 A (in), 10 B (in)
part D pins: 11 Y (oc), 12 A (in), 13 B (in)

## DM74LS38N
designator U?
Quad 2-Input NAND Buffer with Open-Collector Output, 14-Pin PDIP; IC_Technology: LS; Published: 17-Jul-2002; LatestRevisionDate: 29-May-2009; LatestRevisionNote: Component Body Added.; DatasheetVersion: Mar-1998; PackageVersion: 2000; PackageReference: N14A; Publisher: Altium Limited; PackageDescription: DIP, 14-Pin, Row Spacing 7.62 mm, Pitch 2.54 mm; ComponentLink1Description: Manufacturer Link; ComponentLink1URL: http://www.fairchildsemi.com/
footprint N14A (DIP, 14-Leads, Row Spacing 7.62mm, Pitch 2.54mm, Body 19.18x6.35mm)
3D model N14A (DIP, 14-Pin, Row Spacing 7.62 mm, Pitch 2.54 mm)
simulation model FSC_74LS38 (SIMCODE)
signal-integrity model DM74LS38N
pins on every part: 7 GND (power) hidden to GND, 14 VCC (power) hidden to VCC
part A pins: 1 A (in), 2 B (in), 3 Y (oc)
part B pins: 4 A (in), 5 B (in), 6 Y (oc)
part C pins: 8 Y (oc), 9 A (in), 10 B (in)
part D pins: 11 Y (oc), 12 A (in), 13 B (in)

## DM74LS51M
designator U?
Dual 2-Wide 2-Input, 2-Wide 3-Input AND-OR Invert Gate, 14-Pin SOIC; IC_Technology: LS; Published: 17-Jul-2002; LatestRevisionDate: 13-Apr-2006; LatestRevisionNote: IPC-7351 Footprint Added.; DatasheetVersion: Mar-1998; PackageVersion: 2000; PackageReference: M14A; Publisher: Altium Limited; PackageDescription: 14-Pin Small Outline Integrated Circuit 1.27 mm Pitch; Code_IPC: SOIC127P600-14; ComponentLink1Description: Manufacturer Link; ComponentLink1URL: http://www.fairchildsemi.com/
footprint M14A_N (SOIC, 14-Leads, Body 8.6x3.9mm, Pitch 1.27mm, IPC Medium Density)
footprint M14A_L (SOIC, 14-Leads, Body 8.6x3.9mm, Pitch 1.27mm, IPC High Density)
footprint M14A_M (SOIC, 14-Leads, Body 8.6x3.9mm, Pitch 1.27mm, IPC Low Density)
3D model M14A (14-Pin Small Outline Integrated Circuit 1.27 mm Pitch)
signal-integrity model DM74LS51M
pins on every part: 7 GND (power) hidden to GND, 14 VCC (power) hidden to VCC
part A pins: 1 A (in), 8 Y (out), 9 D (in), 10 E (in), 11 F (in), 12 B (in), 13 C (in)
part B pins: 2 A (in), 3 B (in), 4 C (in), 5 D (in), 6 Y (out)

## DM74LS51N
designator U?
Dual 2-Wide 2-Input, 2-Wide 3-Input AND-OR Invert Gate, 14-Pin PDIP; IC_Technology: LS; Published: 17-Jul-2002; LatestRevisionDate: 29-May-2009; LatestRevisionNote: Component Body Added.; DatasheetVersion: Mar-1998; PackageVersion: 2000; PackageReference: N14A; Publisher: Altium Limited; PackageDescription: DIP, 14-Pin, Row Spacing 7.62 mm, Pitch 2.54 mm; ComponentLink1Description: Manufacturer Link; ComponentLink1URL: http://www.fairchildsemi.com/
footprint N14A (DIP, 14-Leads, Row Spacing 7.62mm, Pitch 2.54mm, Body 19.18x6.35mm)
3D model N14A (DIP, 14-Pin, Row Spacing 7.62 mm, Pitch 2.54 mm)
signal-integrity model DM74LS51N
pins on every part: 7 GND (power) hidden to GND, 14 VCC (power) hidden to VCC
part A pins: 1 A (in), 8 Y (out), 9 D (in), 10 E (in), 11 F (in), 12 B (in), 13 C (in)
part B pins: 2 A (in), 3 B (in), 4 C (in), 5 D (in), 6 Y (out)

## DM74LS132M
designator U?
Quad 2-Input Schmitt-Trigger NAND Gate, 14-Pin SOIC; IC_Technology: LS; Published: 17-Jul-2002; LatestRevisionDate: 13-Apr-2006; LatestRevisionNote: IPC-7351 Footprint Added.; DatasheetVersion: Mar-1998; PackageVersion: 2000; PackageReference: M14A; Publisher: Altium Limited; PackageDescription: 14-Pin Small Outline Integrated Circuit 1.27 mm Pitch; Code_IPC: SOIC127P600-14; ComponentLink1Description: Manufacturer Link; ComponentLink1URL: http://www.fairchildsemi.com/
footprint M14A_N (SOIC, 14-Leads, Body 8.6x3.9mm, Pitch 1.27mm, IPC Medium Density)
footprint M14A_L (SOIC, 14-Leads, Body 8.6x3.9mm, Pitch 1.27mm, IPC High Density)
footprint M14A_M (SOIC, 14-Leads, Body 8.6x3.9mm, Pitch 1.27mm, IPC Low Density)
3D model M14A (14-Pin Small Outline Integrated Circuit 1.27 mm Pitch)
simulation model FSC_74LS132 (SIMCODE)
signal-integrity model DM74LS132M
pins on every part: 7 GND (power) hidden to GND, 14 VCC (power) hidden to VCC
part A pins: 1 A (in), 2 B (in), 3 Y (out)
part B pins: 4 A (in), 5 B (in), 6 Y (out)
part C pins: 8 Y (out), 9 A (in), 10 B (in)
part D pins: 11 Y (out), 12 A (in), 13 B (in)

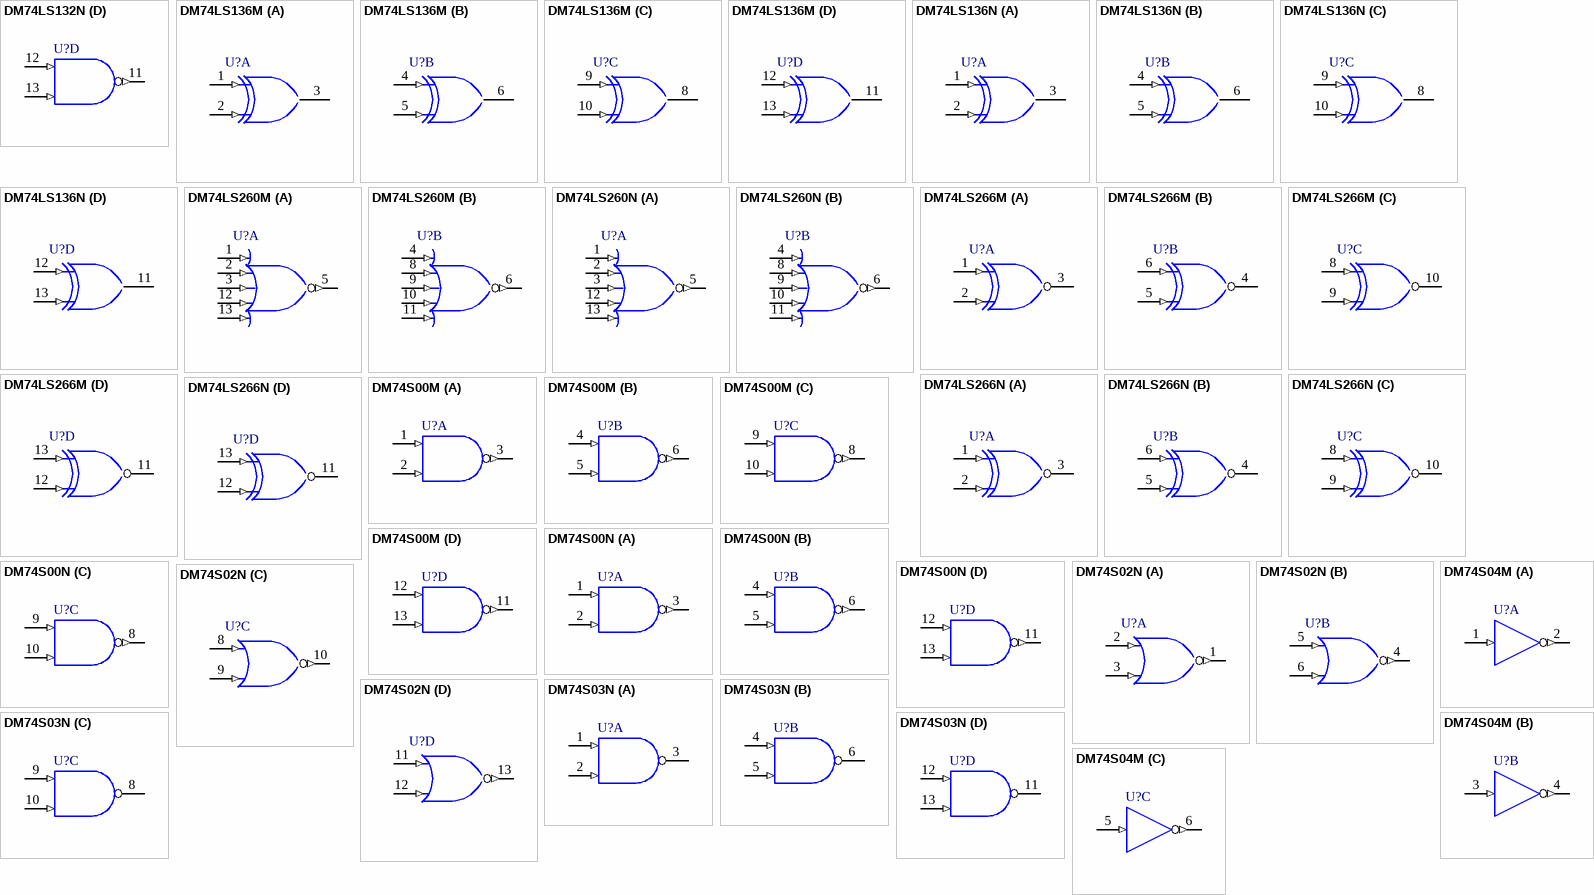
[diagram p26: symbols DM74LS132N to DM74S04M]

## DM74LS132N
designator U?
Quad 2-Input Schmitt-Trigger NAND Gate, 14-Pin PDIP; IC_Technology: LS; Published: 17-Jul-2002; LatestRevisionDate: 29-May-2009; LatestRevisionNote: Component Body Added.; DatasheetVersion: Mar-1998; PackageVersion: 2000; PackageReference: N14A; Publisher: Altium Limited; PackageDescription: DIP, 14-Pin, Row Spacing 7.62 mm, Pitch 2.54 mm; ComponentLink1Description: Manufacturer Link; ComponentLink1URL: http://www.fairchildsemi.com/
footprint N14A (DIP, 14-Leads, Row Spacing 7.62mm, Pitch 2.54mm, Body 19.18x6.35mm)
3D model N14A (DIP, 14-Pin, Row Spacing 7.62 mm, Pitch 2.54 mm)
simulation model FSC_74LS132 (SIMCODE)
signal-integrity model DM74LS132N
pins on every part: 7 GND (power) hidden to GND, 14 VCC (power) hidden to VCC
part A pins: 1 A (in), 2 B (in), 3 Y (out)
part B pins: 4 A (in), 5 B (in), 6 Y (out)
part C pins: 8 Y (out), 9 A (in), 10 B (in)
part D pins: 11 Y (out), 12 A (in), 13 B (in)

## DM74LS136M
designator U?
Quad 2-Input XOR Gate with Open-Collector Output, 14-Pin SOIC; IC_Technology: LS; Published: 17-Jul-2002; LatestRevisionDate: 13-Apr-2006; LatestRevisionNote: IPC-7351 Footprint Added.; DatasheetVersion: Mar-1998; PackageVersion: 2000; PackageReference: M14A; Publisher: Altium Limited; PackageDescription: 14-Pin Small Outline Integrated Circuit 1.27 mm Pitch; Code_IPC: SOIC127P600-14; ComponentLink1Description: Manufacturer Link; ComponentLink1URL: http://www.fairchildsemi.com/
footprint M14A_N (SOIC, 14-Leads, Body 8.6x3.9mm, Pitch 1.27mm, IPC Medium Density)
footprint M14A_L (SOIC, 14-Leads, Body 8.6x3.9mm, Pitch 1.27mm, IPC High Density)
footprint M14A_M (SOIC, 14-Leads, Body 8.6x3.9mm, Pitch 1.27mm, IPC Low Density)
3D model M14A (14-Pin Small Outline Integrated Circuit 1.27 mm Pitch)
simulation model FSC_74LS136 (SIMCODE)
signal-integrity model DM74LS136M
pins on every part: 7 GND (power) hidden to GND, 14 VCC (power) hidden to VCC
part A pins: 1 A (in), 2 B (in), 3 Z (oc)
part B pins: 4 A (in), 5 B (in), 6 Z (oc)
part C pins: 8 Z (oc), 9 A (in), 10 B (in)
part D pins: 11 Z (oc), 12 A (in), 13 B (in)

## DM74LS136N
designator U?
Quad 2-Input XOR Gate with Open-Collector Output, 14-Pin PDIP; IC_Technology: LS; Published: 17-Jul-2002; LatestRevisionDate: 29-May-2009; LatestRevisionNote: Component Body Added.; DatasheetVersion: Mar-1998; PackageVersion: 2000; PackageReference: N14A; Publisher: Altium Limited; PackageDescription: DIP, 14-Pin, Row Spacing 7.62 mm, Pitch 2.54 mm; ComponentLink1Description: Manufacturer Link; ComponentLink1URL: http://www.fairchildsemi.com/
footprint N14A (DIP, 14-Leads, Row Spacing 7.62mm, Pitch 2.54mm, Body 19.18x6.35mm)
3D model N14A (DIP, 14-Pin, Row Spacing 7.62 mm, Pitch 2.54 mm)
simulation model FSC_74LS136 (SIMCODE)
signal-integrity model DM74LS136N
pins on every part: 7 GND (power) hidden to GND, 14 VCC (power) hidden to VCC
part A pins: 1 A (in), 2 B (in), 3 Z (oc)
part B pins: 4 A (in), 5 B (in), 6 Z (oc)
part C pins: 8 Z (oc), 9 A (in), 10 B (in)
part D pins: 11 Z (oc), 12 A (in), 13 B (in)

## DM74LS260M
designator U?
Dual 5-Input NOR Gate, 14-Pin SOIC; IC_Technology: LS; Published: 17-Jul-2002; LatestRevisionDate: 13-Apr-2006; LatestRevisionNote: IPC-7351 Footprint Added.; DatasheetVersion: Mar-1998; PackageVersion: 2000; PackageReference: M14A; Publisher: Altium Limited; PackageDescription: 14-Pin Small Outline Integrated Circuit 1.27 mm Pitch; Code_IPC: SOIC127P600-14; ComponentLink1Description: Manufacturer Link; ComponentLink1URL: http://www.fairchildsemi.com/
footprint M14A_N (SOIC, 14-Leads, Body 8.6x3.9mm, Pitch 1.27mm, IPC Medium Density)
footprint M14A_L (SOIC, 14-Leads, Body 8.6x3.9mm, Pitch 1.27mm, IPC High Density)
footprint M14A_M (SOIC, 14-Leads, Body 8.6x3.9mm, Pitch 1.27mm, IPC Low Density)
3D model M14A (14-Pin Small Outline Integrated Circuit 1.27 mm Pitch)
signal-integrity model DM74LS260M
pins on every part: 7 GND (power) hidden to GND, 14 VCC (power) hidden to VCC
part A pins: 1 A (in), 2 B (in), 3 C (in), 5 Y (out), 12 D (in), 13 E (in)
part B pins: 4 A (in), 6 Y (out), 8 B (in), 9 C (in), 10 D (in), 11 E (in)

## DM74LS260N
designator U?
Dual 5-Input NOR Gate, 14-Pin PDIP; IC_Technology: LS; Published: 17-Jul-2002; LatestRevisionDate: 29-May-2009; LatestRevisionNote: Component Body Added.; DatasheetVersion: Mar-1998; PackageVersion: 2000; PackageReference: N14A; Publisher: Altium Limited; PackageDescription: DIP, 14-Pin, Row Spacing 7.62 mm, Pitch 2.54 mm; ComponentLink1Description: Manufacturer Link; ComponentLink1URL: http://www.fairchildsemi.com/
footprint N14A (DIP, 14-Leads, Row Spacing 7.62mm, Pitch 2.54mm, Body 19.18x6.35mm)
3D model N14A (DIP, 14-Pin, Row Spacing 7.62 mm, Pitch 2.54 mm)
signal-integrity model DM74LS260N
pins on every part: 7 GND (power) hidden to GND, 14 VCC (power) hidden to VCC
part A pins: 1 A (in), 2 B (in), 3 C (in), 5 Y (out), 12 D (in), 13 E (in)
part B pins: 4 A (in), 6 Y (out), 8 B (in), 9 C (in), 10 D (in), 11 E (in)

## DM74LS266M
designator U?
Quad 2-Input XNOR Gate with Open-Collector Output, 14-Pin SOIC; IC_Technology: LS; Published: 17-Jul-2002; LatestRevisionDate: 13-Apr-2006; LatestRevisionNote: IPC-7351 Footprint Added.; DatasheetVersion: Apr-1998; PackageVersion: 2000; PackageReference: M14A; Publisher: Altium Limited; PackageDescription: 14-Pin Small Outline Integrated Circuit 1.27 mm Pitch; Code_IPC: SOIC127P600-14; ComponentLink1Description: Manufacturer Link; ComponentLink1URL: http://www.fairchildsemi.com/
footprint M14A_N (SOIC, 14-Leads, Body 8.6x3.9mm, Pitch 1.27mm, IPC Medium Density)
footprint M14A_L (SOIC, 14-Leads, Body 8.6x3.9mm, Pitch 1.27mm, IPC High Density)
footprint M14A_M (SOIC, 14-Leads, Body 8.6x3.9mm, Pitch 1.27mm, IPC Low Density)
3D model M14A (14-Pin Small Outline Integrated Circuit 1.27 mm Pitch)
simulation model FSC_74LS266 (SIMCODE)
signal-integrity model DM74LS266M
pins on every part: 7 GND (power) hidden to GND, 14 VCC (power) hidden to VCC
part A pins: 1 A (in), 2 B (in), 3 Y (oc)
part B pins: 4 Y (oc), 5 B (in), 6 A (in)
part C pins: 8 A (in), 9 B (in), 10 Y (oc)
part D pins: 11 Y (oc), 12 B (in), 13 A (in)

## DM74LS266N
designator U?
Quad 2-Input XNOR Gate with Open-Collector Output, 14-Pin PDIP; IC_Technology: LS; Published: 17-Jul-2002; LatestRevisionDate: 29-May-2009; LatestRevisionNote: Component Body Added.; DatasheetVersion: Apr-1998; PackageVersion: 2000; PackageReference: N14A; Publisher: Altium Limited; PackageDescription: DIP, 14-Pin, Row Spacing 7.62 mm, Pitch 2.54 mm; ComponentLink1Description: Manufacturer Link; ComponentLink1URL: http://www.fairchildsemi.com/
footprint N14A (DIP, 14-Leads, Row Spacing 7.62mm, Pitch 2.54mm, Body 19.18x6.35mm)
3D model N14A (DIP, 14-Pin, Row Spacing 7.62 mm, Pitch 2.54 mm)
simulation model FSC_74LS266 (SIMCODE)
signal-integrity model DM74LS266N
pins on every part: 7 GND (power) hidden to GND, 14 VCC (power) hidden to VCC
part A pins: 1 A (in), 2 B (in), 3 Y (oc)
part B pins: 4 Y (oc), 5 B (in), 6 A (in)
part C pins: 8 A (in), 9 B (in), 10 Y (oc)
part D pins: 11 Y (oc), 12 B (in), 13 A (in)

## DM74S00M
designator U?
Quad 2-Input NAND Gate, 14-Pin SOIC; IC_Technology: S; Published: 17-Jul-2002; LatestRevisionDate: 13-Apr-2006; LatestRevisionNote: IPC-7351 Footprint Added.; DatasheetVersion: Mar-1998; PackageVersion: 2000; PackageReference: M14A; Publisher: Altium Limited; PackageDescription: 14-Pin Small Outline Integrated Circuit 1.27 mm Pitch; Code_IPC: SOIC127P600-14; ComponentLink1Description: Manufacturer Link; ComponentLink1URL: http://www.fairchildsemi.com/
footprint M14A_N (SOIC, 14-Leads, Body 8.6x3.9mm, Pitch 1.27mm, IPC Medium Density)
footprint M14A_L (SOIC, 14-Leads, Body 8.6x3.9mm, Pitch 1.27mm, IPC High Density)
footprint M14A_M (SOIC, 14-Leads, Body 8.6x3.9mm, Pitch 1.27mm, IPC Low Density)
3D model M14A (14-Pin Small Outline Integrated Circuit 1.27 mm Pitch)
simulation model FSC_74LS00 (SIMCODE)
signal-integrity model DM74S00M
pins on every part: 7 GND (power) hidden to GND, 14 VCC (power) hidden to VCC
part A pins: 1 A (in), 2 B (in), 3 Y (out)
part B pins: 4 A (in), 5 B (in), 6 Y (out)
part C pins: 8 Y (out), 9 A (in), 10 B (in)
part D pins: 11 Y (out), 12 A (in), 13 B (in)

## DM74S00N
designator U?
Quad 2-Input NAND Gate, 14-Pin PDIP; IC_Technology: S; Published: 17-Jul-2002; LatestRevisionDate: 29-May-2009; LatestRevisionNote: Component Body Added.; DatasheetVersion: Mar-1998; PackageVersion: 2000; PackageReference: N14A; Publisher: Altium Limited; PackageDescription: DIP, 14-Pin, Row Spacing 7.62 mm, Pitch 2.54 mm; ComponentLink1Description: Manufacturer Link; ComponentLink1URL: http://www.fairchildsemi.com/
footprint N14A (DIP, 14-Leads, Row Spacing 7.62mm, Pitch 2.54mm, Body 19.18x6.35mm)
3D model N14A (DIP, 14-Pin, Row Spacing 7.62 mm, Pitch 2.54 mm)
simulation model FSC_74LS00 (SIMCODE)
signal-integrity model DM74S00N
pins on every part: 7 GND (power) hidden to GND, 14 VCC (power) hidden to VCC
part A pins: 1 A (in), 2 B (in), 3 Y (out)
part B pins: 4 A (in), 5 B (in), 6 Y (out)
part C pins: 8 Y (out), 9 A (in), 10 B (in)
part D pins: 11 Y (out), 12 A (in), 13 B (in)

## DM74S02N
designator U?
Quad 2-Input NOR Gate, 14-Pin PDIP; IC_Technology: S; Published: 17-Jul-2002; LatestRevisionDate: 29-May-2009; LatestRevisionNote: Component Body Added.; DatasheetVersion: Mar-1998; PackageVersion: 2000; PackageReference: N14A; Publisher: Altium Limited; PackageDescription: DIP, 14-Pin, Row Spacing 7.62 mm, Pitch 2.54 mm; ComponentLink1Description: Manufacturer Link; ComponentLink1URL: http://www.fairchildsemi.com/
footprint N14A (DIP, 14-Leads, Row Spacing 7.62mm, Pitch 2.54mm, Body 19.18x6.35mm)
3D model N14A (DIP, 14-Pin, Row Spacing 7.62 mm, Pitch 2.54 mm)
signal-integrity model DM74S02N
pins on every part: 7 GND (power) hidden to GND, 14 VCC (power) hidden to VCC
part A pins: 1 Y (out), 2 A (in), 3 B (in)
part B pins: 4 Y (out), 5 A (in), 6 B (in)
part C pins: 8 A (in), 9 B (in), 10 Y (out)
part D pins: 11 A (in), 12 B (in), 13 Y (out)

## DM74S03N
designator U?
Quad 2-Input NAND Gate with Open-Collector Output, 14-Pin PDIP; IC_Technology: S; Published: 17-Jul-2002; LatestRevisionDate: 29-May-2009; LatestRevisionNote: Component Body Added.; DatasheetVersion: Mar-1998; PackageVersion: 2000; PackageReference: N14A; Publisher: Altium Limited; PackageDescription: DIP, 14-Pin, Row Spacing 7.62 mm, Pitch 2.54 mm; ComponentLink1Description: Manufacturer Link; ComponentLink1URL: http://www.fairchildsemi.com/
footprint N14A (DIP, 14-Leads, Row Spacing 7.62mm, Pitch 2.54mm, Body 19.18x6.35mm)
3D model N14A (DIP, 14-Pin, Row Spacing 7.62 mm, Pitch 2.54 mm)
simulation model FSC_74LS03 (SIMCODE)
signal-integrity model DM74S03N
pins on every part: 7 GND (power) hidden to GND, 14 VCC (power) hidden to VCC
part A pins: 1 A (in), 2 B (in), 3 Y (oc)
part B pins: 4 A (in), 5 B (in), 6 Y (oc)
part C pins: 8 Y (oc), 9 A (in), 10 B (in)
part D pins: 11 Y (oc), 12 A (in), 13 B (in)

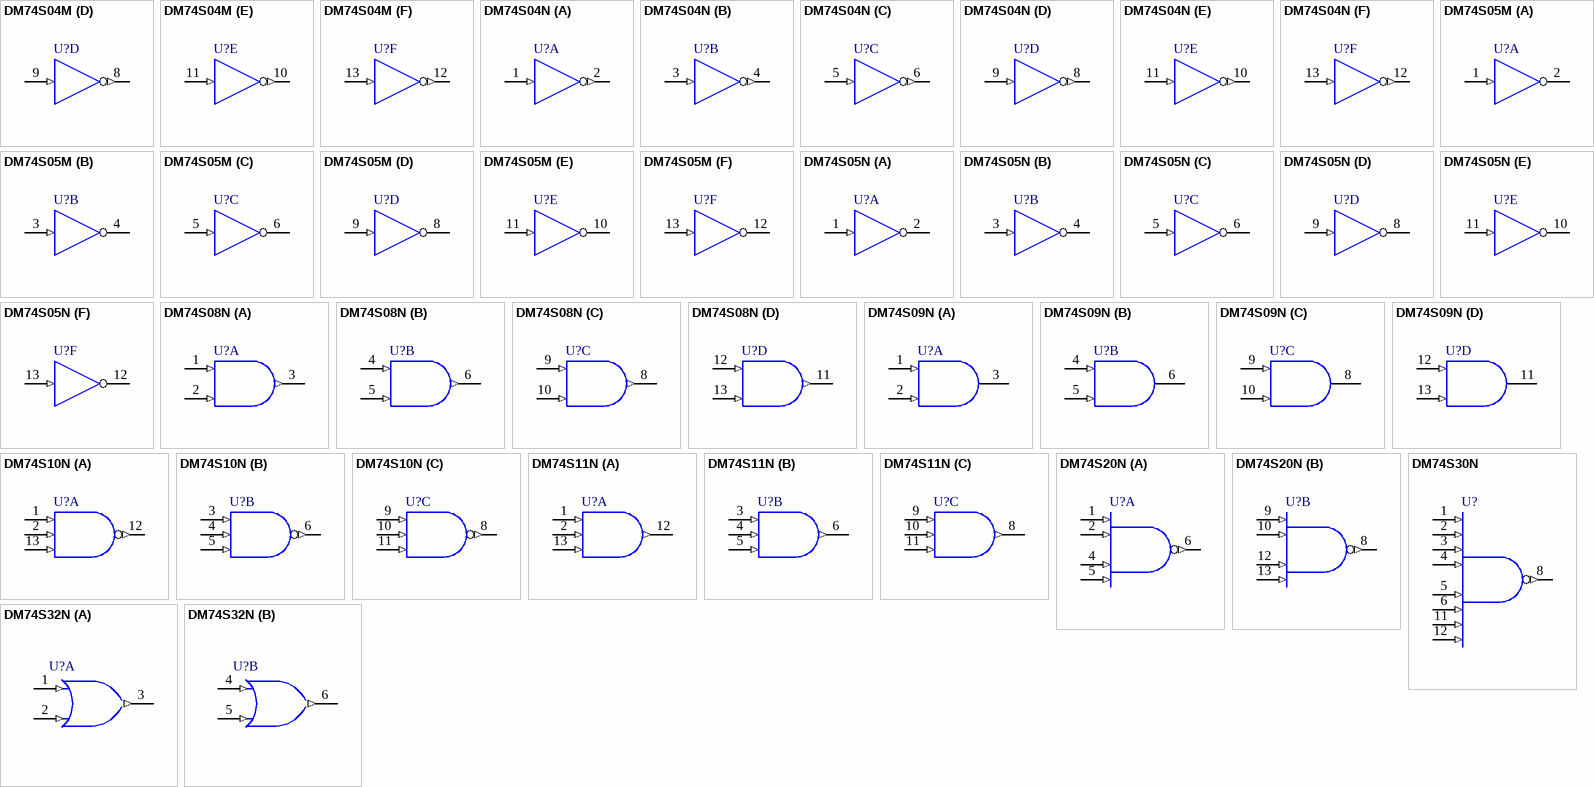
[diagram p27: symbols DM74S04M to DM74S32N]

## DM74S04M
designator U?
Hex Inverter, 14-Pin SOIC; IC_Technology: S; Published: 17-Jul-2002; LatestRevisionDate: 13-Apr-2006; LatestRevisionNote: IPC-7351 Footprint Added.; DatasheetVersion: Mar-1998; PackageVersion: 2000; PackageReference: M14A; Publisher: Altium Limited; PackageDescription: 14-Pin Small Outline Integrated Circuit 1.27 mm Pitch; Code_IPC: SOIC127P600-14; ComponentLink1Description: Manufacturer Link; ComponentLink1URL: http://www.fairchildsemi.com/
footprint M14A_N (SOIC, 14-Leads, Body 8.6x3.9mm, Pitch 1.27mm, IPC Medium Density)
footprint M14A_L (SOIC, 14-Leads, Body 8.6x3.9mm, Pitch 1.27mm, IPC High Density)
footprint M14A_M (SOIC, 14-Leads, Body 8.6x3.9mm, Pitch 1.27mm, IPC Low Density)
3D model M14A (14-Pin Small Outline Integrated Circuit 1.27 mm Pitch)
simulation model FSC_74LS04 (SIMCODE)
signal-integrity model DM74S04M
pins on every part: 7 GND (power) hidden to GND, 14 VCC (power) hidden to VCC
part A pins: 1 A (in), 2 Y (out)
part B pins: 3 A (in), 4 Y (out)
part C pins: 5 A (in), 6 Y (out)
part D pins: 8 Y (out), 9 A (in)
part E pins: 10 Y (out), 11 A (in)
part F pins: 12 Y (out), 13 A (in)

## DM74S04N
designator U?
Hex Inverter, 14-Pin PDIP; IC_Technology: S; Published: 17-Jul-2002; LatestRevisionDate: 29-May-2009; LatestRevisionNote: Component Body Added.; DatasheetVersion: Mar-1998; PackageVersion: 2000; PackageReference: N14A; Publisher: Altium Limited; PackageDescription: DIP, 14-Pin, Row Spacing 7.62 mm, Pitch 2.54 mm; ComponentLink1Description: Manufacturer Link; ComponentLink1URL: http://www.fairchildsemi.com/
footprint N14A (DIP, 14-Leads, Row Spacing 7.62mm, Pitch 2.54mm, Body 19.18x6.35mm)
3D model N14A (DIP, 14-Pin, Row Spacing 7.62 mm, Pitch 2.54 mm)
simulation model FSC_74LS04 (SIMCODE)
signal-integrity model DM74S04N
pins on every part: 7 GND (power) hidden to GND, 14 VCC (power) hidden to VCC
part A pins: 1 A (in), 2 Y (out)
part B pins: 3 A (in), 4 Y (out)
part C pins: 5 A (in), 6 Y (out)
part D pins: 8 Y (out), 9 A (in)
part E pins: 10 Y (out), 11 A (in)
part F pins: 12 Y (out), 13 A (in)

## DM74S05M
designator U?
Hex Inverter with Open-Collector Output, 14-Pin SOIC; IC_Technology: S; Published: 17-Jul-2002; LatestRevisionDate: 13-Apr-2006; LatestRevisionNote: IPC-7351 Footprint Added.; DatasheetVersion: Mar-1998; PackageVersion: 2000; PackageReference: M14A; Publisher: Altium Limited; PackageDescription: 14-Pin Small Outline Integrated Circuit 1.27 mm Pitch; Code_IPC: SOIC127P600-14; ComponentLink1Description: Manufacturer Link; ComponentLink1URL: http://www.fairchildsemi.com/
footprint M14A_N (SOIC, 14-Leads, Body 8.6x3.9mm, Pitch 1.27mm, IPC Medium Density)
footprint M14A_L (SOIC, 14-Leads, Body 8.6x3.9mm, Pitch 1.27mm, IPC High Density)
footprint M14A_M (SOIC, 14-Leads, Body 8.6x3.9mm, Pitch 1.27mm, IPC Low Density)
3D model M14A (14-Pin Small Outline Integrated Circuit 1.27 mm Pitch)
simulation model FSC_74LS05 (SIMCODE)
signal-integrity model DM74S05M
pins on every part: 7 GND (power) hidden to GND, 14 VCC (power) hidden to VCC
part A pins: 1 A (in), 2 Y (oc)
part B pins: 3 A (in), 4 Y (oc)
part C pins: 5 A (in), 6 Y (oc)
part D pins: 8 Y (oc), 9 A (in)
part E pins: 10 Y (oc), 11 A (in)
part F pins: 12 Y (oc), 13 A (in)